# EAGLE library part EXP1.2-VJUMP (library mystuff)
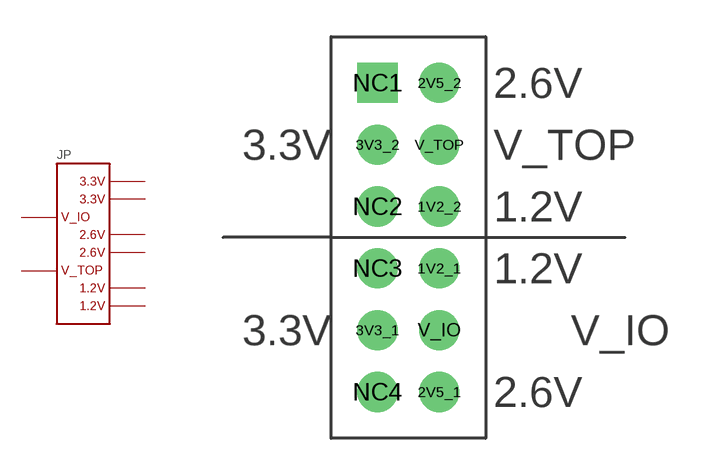
[diagram p2: symbol with the pads of EXP1.2-VJUMP; footprint EXP1.2-VJUMP]

Designator prefix JP

## EXP1.2-VJUMP  [EXP1.2-VJUMP]
1V2_1  1V2_1
1V2_2  1V2_2
2V5_1  2V5_1
2V5_2  2V5_2
3V3_1  3V3_1
3V3_2  3V3_2
V_IO  V_IO
V_TOP  V_TOP

## Footprint EXP1.2-VJUMP (pad centres in mm)
drill 1.1: 1V2_1 2.54,-7.62; 1V2_2 2.54,-5.08; 2V5_1 2.54,-12.7; 2V5_2 2.54,0; 3V3_1 0,-10.16; 3V3_2 0,-2.54; NC2 0,-5.08; NC3 0,-7.62; NC4 0,-12.7; V_IO 2.54,-10.16; V_TOP 2.54,-2.54
drill 1.1 square: NC1 0,0